# Altium integrated library PUI Audio Speaker.IntLib: 1 symbol
Pins are listed as number, name and electrical type; pins without a type are passive.

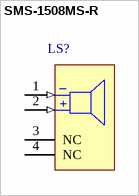
[diagram p0: symbol SMS-1508MS-R]

## SMS-1508MS-R
designator LS?
Speaker, 8Ohm, 0.5W, 87dB, 800Hz, 15x15x4mm, SMT; Published: 14-Mar-2008; DatasheetVersion: Jun-2006; PackageVersion: Jun-2006; PackageReference: SPK15X15X4; Publisher: Altium Limited; PackageDescription: Speaker, Plastic Body 15 x 15 x 4 mm (LxWxH), SMT, 1.5 grams; ComponentLink1Description: Manufacturer Link; ComponentLink1URL: http://www.pui.com/; ComponentLink2Description: Datasheet; ComponentLink2URL: http://www.projectsunlimited.com/audioproducts/movieclips/products/drawings/SMS-1508MS-R.pdf
footprint SPK15X15X4 (Speaker; 4 Leads, Body 15x15x4mm (LxWxH typ), SMT)
pins: 1 -LEAD (in), 2 +LEAD (in), 3 NC, 4 NC
text: _; +